# Altium schematic symbol library SLA3000-FPGA[4086].SCHLIB: 26 symbols
Pins are listed as number, name and electrical type; pins without a type are passive.

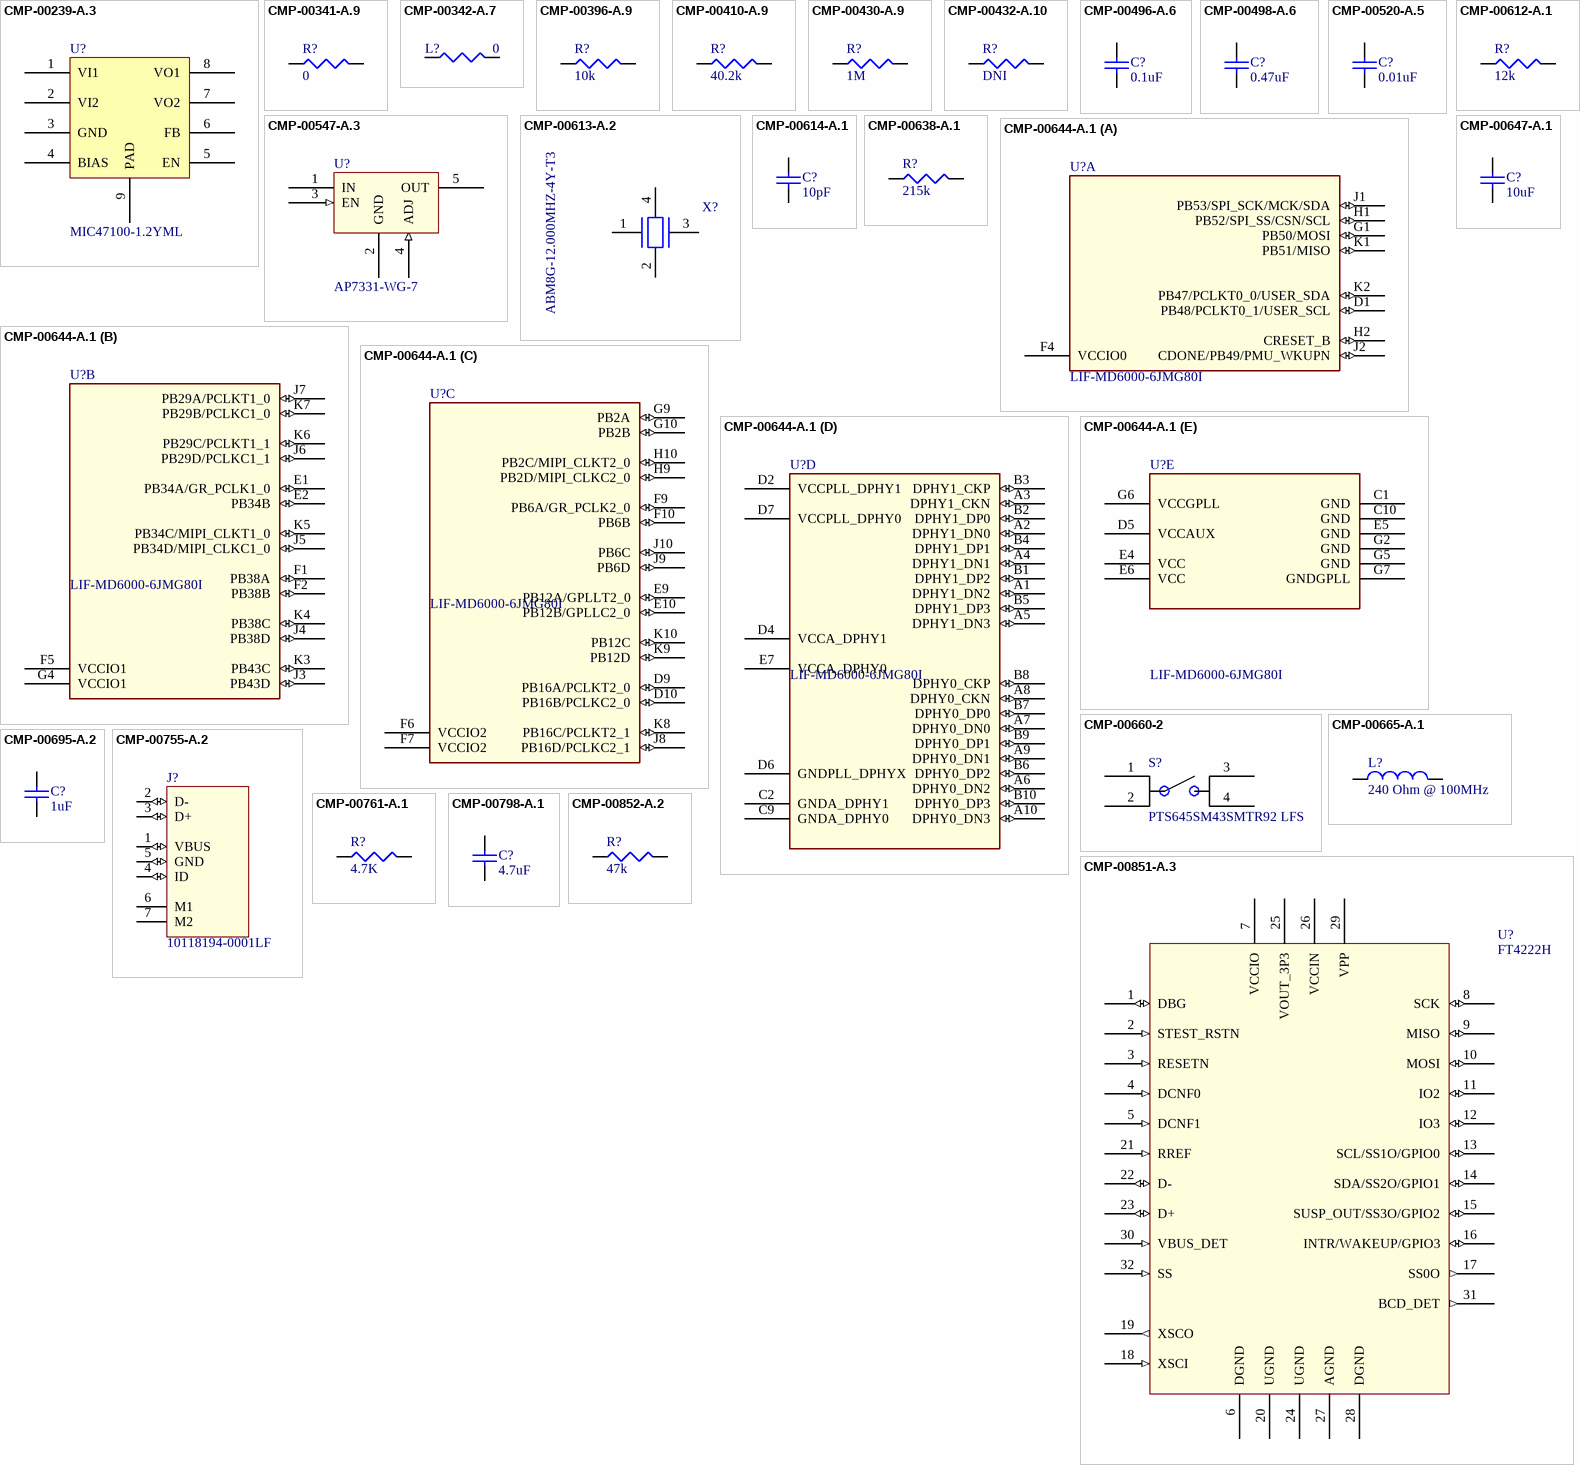
[diagram p0: symbols CMP-00239-A.3 to CMP-00852-A.2]

## CMP-00239-A.3
designator U?, comment MIC47100-1.2YML
1.2V, 1A, MIC47100-1.2TML IC REG LDO 8MLF; SLA Part No: SL00247; Mfg: Micrel; HelpURL: http://www.micrel.com/_PDF/mic47100.pdf; MfgPartNo: MIC47100-1.2YML; Package: 8-MLF
footprint MLF2x2 (MLF2x2 Package for MIC47100-1.2YML)
pins: 1 VI1, 2 VI2, 3 GND, 4 BIAS, 5 EN, 6 FB, 7 VO2, 8 VO1, 9 PAD

## CMP-00341-A.9
designator R?, comment 0
RES SMD 0.0OHM JUMPER 1/10W 0402; SLA Part No: SL00128; MfgPartNo: ERJ-2GE0R00X; Mfg: Panasonic; Package: 402; Resistance: 0
footprint RES_0402_MED (0402 Chip Resistor, 2-Leads, Body 1.00x0.50mm, IPC Medium Density)
pins: 1, 2

## CMP-00342-A.7
designator L?, comment 0
RES SMD 0.0OHM JUMPER 1/10W 0603; MfgPartNo: ERJ-3GEY0R00V; SLA Part No: SL00033; Mfg: Panasonic; Package: 603; Resistance: 0
footprint RES_0603_MED (0603 Chip Resistor, 2-Leads, Body 1.60x0.85mm, IPC Medium Density)
pins: 1, 2

## CMP-00396-A.9
designator R?, comment 10k
RES SMD 10K OHM 1% 1/10W 0402; SLA Part No: SL00225; MfgPartNo: ERJ-2RKF1002X; Mfg: Panasonic; Package: 402; Resistance: 10k
footprint RES_0402_MED (0402 Chip Resistor, 2-Leads, Body 1.00x0.50mm, IPC Medium Density)
pins: 1, 2

## CMP-00410-A.9
designator R?, comment 40.2k
RES 40.2K OHM 1/10W 1% 0402 SMD; SLA Part No: SL00235; MfgPartNo: ERJ-2RKF4022X; Mfg: Panasonic; Package: 402; Resistance: 40.2k
footprint RES_0402_MED (0402 Chip Resistor, 2-Leads, Body 1.00x0.50mm, IPC Medium Density)
pins: 1, 2

## CMP-00430-A.9
designator R?, comment 1M
RES SMD 1M OHM 1% 1/10W 0402; MfgPartNo: ERJ-2RKF1004X; SLA Part No: SL00141; Mfg: Panasonic; Package: 402; Resistance: 1M
footprint RES_0402_MED (0402 Chip Resistor, 2-Leads, Body 1.00x0.50mm, IPC Medium Density)
pins: 1, 2

## CMP-00432-A.10
designator R?, comment DNI
Do Not Populate 0402 Res; Package: 402; Resistance: DNI; MfgPartNo: DNI; Mfg: DNI; Value: DNI; Component Type: Resistor
footprint RES_0402_MED (0402 Chip Resistor, 2-Leads, Body 1.00x0.50mm, IPC Medium Density)
pins: 1, 2

## CMP-00496-A.6
designator C?, comment 0.1uF
CAP CER 0.1UF 25V X7R 0402; SLA Part No: SL00150; MfgPartNo: C1005X7R1E104K; Mfg: TDK; Type: Ceramic - X7R; Capacitance: 0.1uF; Package: 402
footprint CAP_0402_MED (0402 Chip Capacitor, 2-Leads, Body 1.00x0.50mm, IPC Medium Density)
pins: 1, 2

## CMP-00498-A.6
designator C?, comment 0.47uF
CAP CER 0.47UF 16V 10% X7R 0603; SLA Part No: SL00008; MfgPartNo: C0603C474K4RACTU; Mfg: Kemet; Type: Ceramic - X7R; Capacitance: 0.47uF; Package: 603
footprint CAP_0603_MED (0603 Chip Capacitor, 2-Leads, Body 1.60x0.85mm, IPC Medium Density)
pins: 1, 2

## CMP-00520-A.5
designator C?, comment 0.01uF
CAP CER 10000PF 16V 10% X5R 0402; SLA Part No: SL00726; MfgPartNo: GRM155R61C103KA01D; Type: Ceramic - X5R; Mfg: Murata; Capacitance: 0.01uF; Package: 402
footprint CAP_0402_MED (0402 Chip Capacitor, 2-Leads, Body 1.00x0.50mm, IPC Medium Density)
pins: 1, 2

## CMP-00547-A.3
designator U?, comment AP7331-WG-7
Adj 0.8-5V Out, 2-6V In, 300mA, AP7331-WG-7 LDO SOT23-5; SLA Part No: SL00740; Mfg: Diodes Inc.; HelpURL: http://www.diodes.com/_files/datasheets/AP7346.pdf; Package: SOT-25-3; MfgPartNo: AP7331-WG-7
footprint SOT25-3 (for AP7331-WG-7)
pins: 1 IN (power) "Input Supply (2-6V)", 2 GND (power) "Ground", 3 EN (in) "Enable Input (Active High)", 4 ADJ (in) "Adjust Pin", 5 OUT (power) "Output"

## CMP-00612-A.1
designator R?, comment 12k
RES SMD 12K OHM 1% 1/16W 0402; MfgPartNo: RC0402FR-0712KL; Mfg: Yageo; Package: 0402; Resistance: 12k
footprint RES_0402_MED (0402 Chip Resistor, 2-Leads, Body 1.00x0.50mm, IPC Medium Density)
pins: 1, 2

## CMP-00613-A.2
designator X?, comment ABM8G-12.000MHZ-4Y-T3
CRYSTAL 12.0000MHZ 10PF SMD; Mfg: Abracon; MfgPartNo: ABM8G-12.000MHZ-4Y-T3; Package: 4-SMD
footprint ABM8G (ABM8G Footprint)
pins: 1 OSC1, 2 GND (power) "Ground", 3 OSC2, 4 GND (power) "Ground"

## CMP-00614-A.1
designator C?, comment 10pF
CAP CER 10PF 50V C0G/NP0 0402; MfgPartNo: GCM1555C1H100FA16D; Type: Ceramic - C0G; Mfg: Murata; Package: 0402; Capacitance: 10pF
footprint CAP_0402_MED (0402 Chip Capacitor, 2-Leads, Body 1.00x0.50mm, IPC Medium Density)
pins: 1, 2

## CMP-00638-A.1
designator R?, comment 215k
RES SMD 215K OHM 1% 1/16W 0402; MfgPartNo: RC0402FR-07215KL; Mfg: Yageo; Resistance: 215k; Package: 0402
footprint RES_0402_MED (0402 Chip Resistor, 2-Leads, Body 1.00x0.50mm, IPC Medium Density)
pins: 1, 2

## CMP-00644-A.1
designator U?, comment LIF-MD6000-6JMG80I
LIF-MD6000-6JMG80I LATTICE CROSSLINK - INTERFACE MIPI D-; MfgPartNo: LIF-MD6000-6JMG80I; Package: 80-CTFBGA; Mfg: Lattice; HelpURL: https://www.digikey.com/products/en/integrated-circuits-ics/embedded-fpgas-field-programmable-gate-array/696?k=lif-md&k=&pkeyword=lif-md&pv16=5352&pv1291=10039&FV=ffe002b8&quantity=0&ColumnSort=0&page=1&pageSize=25
footprint CTFBGA-80 (CTFBGA-80 FOR LIF-MD6000)
part A pins: D1 PB48/PCLKT0_1/USER_SCL (io), F4 VCCIO0 (power), G1 PB50/MOSI (io), H1 PB52/SPI_SS/CSN/SCL (io), H2 CRESET_B (io), J1 PB53/SPI_SCK/MCK/SDA (io), J2 CDONE/PB49/PMU_WKUPN (io), K1 PB51/MISO (io), K2 PB47/PCLKT0_0/USER_SDA (io)
part B pins: E1 PB34A/GR_PCLK1_0 (io), E2 PB34B (io), F1 PB38A (io), F2 PB38B (io), F5 VCCIO1 (power), G4 VCCIO1 (power), J3 PB43D (io), J4 PB38D (io), J5 PB34D/MIPI_CLKC1_0 (io), J6 PB29D/PCLKC1_1 (io), J7 PB29A/PCLKT1_0 (io), K3 PB43C (io), K4 PB38C (io), K5 PB34C/MIPI_CLKT1_0 (io), K6 PB29C/PCLKT1_1 (io), K7 PB29B/PCLKC1_0 (io)
part C pins: D9 PB16A/PCLKT2_0 (io), D10 PB16B/PCLKC2_0 (io), E9 PB12A/GPLLT2_0 (io), E10 PB12B/GPLLC2_0 (io), F6 VCCIO2 (power), F7 VCCIO2 (power), F9 PB6A/GR_PCLK2_0 (io), F10 PB6B (io), G9 PB2A (io), G10 PB2B (io), H9 PB2D/MIPI_CLKC2_0 (io), H10 PB2C/MIPI_CLKT2_0 (io), J8 PB16D/PCLKC2_1 (io), J9 PB6D (io), J10 PB6C (io), K8 PB16C/PCLKT2_1 (io), K9 PB12D (io), K10 PB12C (io)
part D pins: A1 DPHY1_DN2 (io), A2 DPHY1_DN0 (io), A3 DPHY1_CKN (io), A4 DPHY1_DN1 (io), A5 DPHY1_DN3 (io), A6 DPHY0_DN2 (io), A7 DPHY0_DN0 (io), A8 DPHY0_CKN (io), A9 DPHY0_DN1 (io), A10 DPHY0_DN3 (io), B1 DPHY1_DP2 (io), B2 DPHY1_DP0 (io), B3 DPHY1_CKP (io), B4 DPHY1_DP1 (io), B5 DPHY1_DP3 (io), B6 DPHY0_DP2 (io), B7 DPHY0_DP0 (io), B8 DPHY0_CKP (io), B9 DPHY0_DP1 (io), B10 DPHY0_DP3 (io), C2 GNDA_DPHY1 (power), C9 GNDA_DPHY0 (power), D2 VCCPLL_DPHY1 (power), D4 VCCA_DPHY1 (power), D6 GNDPLL_DPHYX (power), D7 VCCPLL_DPHY0 (power), E7 VCCA_DPHY0 (power)
part E pins: C1 GND (power), C10 GND (power), D5 VCCAUX (power), E4 VCC (power), E5 GND (power), E6 VCC (power), G2 GND (power), G5 GND (power), G6 VCCGPLL (power), G7 GNDGPLL (power)

## CMP-00647-A.1
designator C?, comment 10uF
CAP CER 10UF 6.3V X5R 0402; MfgPartNo: GRM155R60J106ME47D; Type: Ceramic - X5R; Mfg: Murata; Package: 0402; Capacitance: 10uF
footprint CAP_0402_MED (0402 Chip Capacitor, 2-Leads, Body 1.00x0.50mm, IPC Medium Density)
pins: 1, 2

## CMP-00660-2
designator S?, comment PTS645SM43SMTR92 LFS
PTS645SM43SMTR92 LFS SWITCH TACTILE SPST-NO 0.05A 12V; Mfg: C&K; HelpURL: https://www.digikey.com/product-detail/en/c-k/PTS645SM43SMTR92-LFS/CKN9112CT-ND/1146934; Package: SMT; MfgPartNo: PTS645SM43SMTR92 LFS
footprint PTS645SM43SMTR92 LFS (PTS645SM43SMTR92 LFS SPST PUSHBUTTON SW)
pins: 1, 2, 3, 4

## CMP-00665-A.1
designator L?, comment 240 Ohm @ 100MHz
BLM03BD241SN1D FERRITE BEAD 240 OHM 0201 1LN; Mfg: Murata; Rated Current: 200mA; Inductance: 240 Ohm @ 100MHz; Package: 0201; MfgPartNo: BLM03BD241SN1D; HelpURL: https://www.digikey.com/product-detail/en/murata-electronics-north-america/BLM03BD241SN1D/490-5173-1-ND/1948349
footprint IND_0201_MED (0201 Chip Inductor)
pins: 1, 2

## CMP-00695-A.2
designator C?, comment 1uF
CAP CER 1UF 25V X5R 0402; MfgPartNo: EMK105BJ105KV-F; Mfg: Taiyo Yuden; Type: Ceramic - X5R; Package: 402; Capacitance: 1uF; Component Type: Capacitor
footprint CAP_0402_MED (0402 Chip Capacitor, 2-Leads, Body 1.00x0.50mm, IPC Medium Density)
pins: 1, 2

## CMP-00755-A.2
designator J?, comment 10118194-0001LF
10118194-0001LF CONN USB MICRO B RECPT THRU-SMT R/A; Mfg: Amphenol; Gender: Female; MfgPartNo: 10118194-0001LF; HelpURL: https://www.amphenol-icc.com/media/wysiwyg/files/drawing/10118194.pdf; Mounting: THRU-SMT; Component Type: Connector
footprint 10118194-0001LF (10118194-0001LF USB Micro-B THRU-HOLE)
pins: 1 VBUS (io) "Pin 1", 2 D- (io) "Pin 1", 3 D+ (io) "Pin 1", 4 ID (io) "ID Pin", 5 GND (io) "Pin 1", 6 M1 "Mounting Point 1", 7 M2 "Mounting Point 2"

## CMP-00761-A.1
designator R?, comment 4.7K
RES SMD 4K7 OHM 1% 1/16W 0402; MfgPartNo: RC0402FR-074K7P; Mfg: Yageo; Resistance: 4.7K; Package: 402; Component Type: Resistor
footprint RES_0402_MED (0402 Chip Resistor, 2-Leads, Body 1.00x0.50mm, IPC Medium Density)
pins: 1, 2

## CMP-00798-A.1
designator C?, comment 4.7uF
CAP CER 4.7UF 16V X5R 0402; MfgPartNo: 0402YD475MAT2A; Type: Ceramic - X5R; Mfg: AVX; Package: 0402; Capacitance: 4.7uF; Component Type: Capacitor
footprint CAP_0402_MED (0402 Chip Capacitor, 2-Leads, Body 1.00x0.50mm, IPC Medium Density)
pins: 1, 2

## CMP-00851-A.3
designator U?, comment FT4222H
FT4222H USB2.0 TO QUADSPI/I2C BRIDGE IC VQFN-32; Mfg: FTDI; MfgPartNo: FT4222H; Package: VQFN-32; HelpURL: http://www.ftdichip.com/Support/Documents/DataSheets/ICs/DS_FT4222H.pdf; Component Type: Interface
footprint VQFN-32 (VQFN-32 for FT4222H)
pins: 1 DBG (io) "Ready to Transmit", 2 STEST_RSTN (in) "Capacitor 1 +", 3 RESETN (in) "Positive Supply", 4 DCNF0 (in) "Capacitor 1 -", 5 DCNF1 (in) "Capacitor 2 +", 6 DGND (power) "Capacitor 2 -", 7 VCCIO (power) "Negative Voltage Supply", 8 SCK (io) "Transmitter 2 Output", 9 MISO (io) "Receiver 2 Input", 10 MOSI (io) "Receiver 2 Output", 11 IO2 (io) "Invalid RS-232 level flag", 12 IO3 (io) "Transmitter 2 Input", 13 SCL/SS1O/GPIO0 (io) "Transmitter 1 Input", 14 SDA/SS2O/GPIO1 (io) "AutoShutDown Override (Active High)", 15 SUSP_OUT/SS3O/GPIO2 (io) "Receiver 1 Output", 16 INTR/WAKEUP/GPIO3 (io) "Receiver 1 Input", 17 SS0O (out) "Transmitter 1 Output", 18 XSCI (in) "Ground", 19 XSCO (out) "Supply", 20 UGND (power) "Force Chip Off (Active Low)", 21 RREF (in), 22 D- (io), 23 D+ (io), 24 UGND (power), 25 VOUT_3P3 (power), 26 VCCIN (power), 27 AGND (power), 28 DGND (power), 29 VPP (power), 30 VBUS_DET (in), 31 BCD_DET (out), 32 SS (in)

## CMP-00852-A.2
designator R?, comment 47k
RES SMD 47K OHM 1% 1/10W 0402; MfgPartNo: ERJ-U02F4702X; Mfg: Panasonic; Resistance: 47k; Package: 402; Component Type: Resistor
footprint RES_0402_MED (0402 Chip Resistor, 2-Leads, Body 1.00x0.50mm, IPC Medium Density)
pins: 1, 2

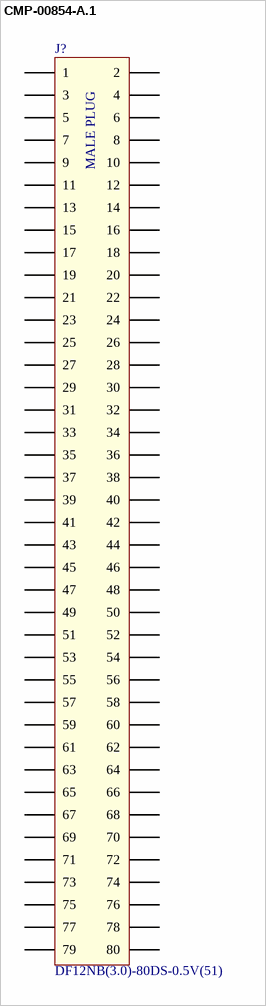
[diagram p1: symbol CMP-00854-A.1]

## CMP-00854-A.1
designator J?, comment DF12NB(3.0)-80DS-0.5V(51)
DF12NB(3.0)-80DS-0.5V(51) HIROSE CONN HEADER 80POS 3MM SMD 0.5MM; Gender: Male; Mounting: SMT; HelpURL: https://www.hirose.com/product/download/?distributor=digikey&type=specSheet&lang=en&num=DF12NB(4.0)-20DP-0.5V(51); Mfg: Hirose; MfgPartNo: DF12NB(3.0)-80DS-0.5V(51); Component Type: Connector
footprint DF12NB(3.0)-80DS-0.5V(51) (Hirose 80-pin 3mm Stacking Height Male Connector)
pins: 1, 2, 3, 4, 5, 6, 7, 8, 9, 10, 11, 12, 13, 14, 15, 16, 17, 18, 19, 20, 21, 22, 23, 24, 25, 26, 27, 28, 29, 30, 31, 32, 33, 34, 35, 36, 37, 38, 39, 40, 41, 42, 43, 44, 45, 46, 47, 48, 49, 50, 51, 52, 53, 54, 55, 56, 57, 58, 59, 60, 61, 62, 63, 64, 65, 66, 67, 68, 69, 70, 71, 72, 73, 74, 75, 76, 77, 78, 79, 80
text: MALE PLUG